# EAGLE library part PDQE20-Q24-S5-D (library PDQE20-Q24-S5-D)
Isolated DC/DC Converters isolated, 20 W, 9 36 Vdc input, 5 Vdc, 4 A, single regulated output, DIP Source: Datasheet <https://www.cui.com/product/resource/pdqe20-d.pdf>
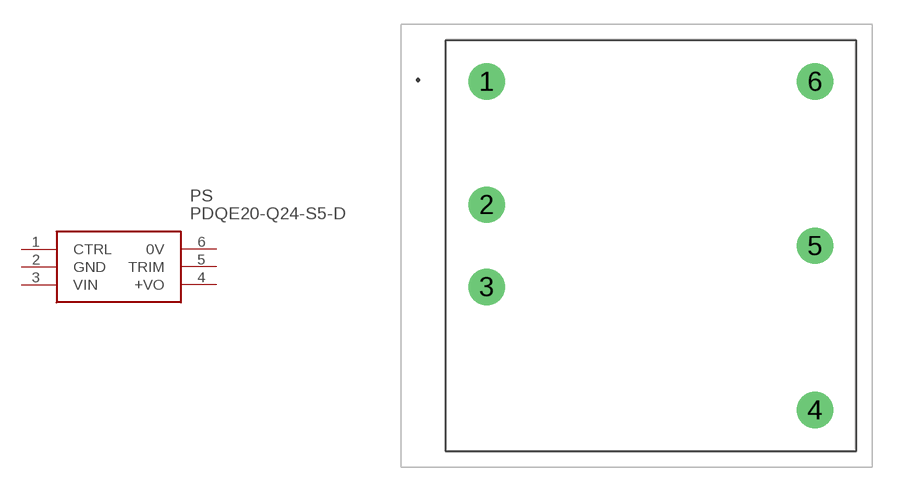
[diagram p0: symbol with the pads of PDQE15Q24S5D; footprint PDQE15Q24S5D]

Designator prefix PS

## PDQE20-Q24-S5-D (Description: Isolated DC/DC Converters isolated, 20 W, 9 36 Vdc input, 5 Vdc, 4 A, single regulated output, DIP; Height: 12.2mm; Manufacturer_Name: CUI; Manufacturer_Part_Number: PDQE20-Q24-S5-D; Mouser_Part_Number: 490-PDQE20-Q24-S5-D; Mouser_Price-Stock: https://www.mouser.com/Search/Refine.aspx?Keyword=490-PDQE20-Q24-S5-D)  [PDQE15Q24S5D]
1  CTRL
2  GND
3  VIN
4  +VO
5  TRIM
6  0V

## Footprint PDQE15Q24S5D (pad centres in mm)
PDQE15-Q24-S5-D-1
drill 1.5 pad 2.25: 1 0,0; 2 0,-7.62; 3 0,-12.7; 4 20.32,-20.32; 5 20.32,-10.16; 6 20.32,0